# Altium footprint library Regulator.PcbLib: 11 footprints
Each footprint in its own frame and in the unit in brackets; x right, y up, seen from the top. Pads: shape width x height; smd on the part's side, far side on the other; paste and mask are expansions set on the pad; w line width, h text height; cw(c..) or ccw(c..) is an arc to the next point about the centre after c.
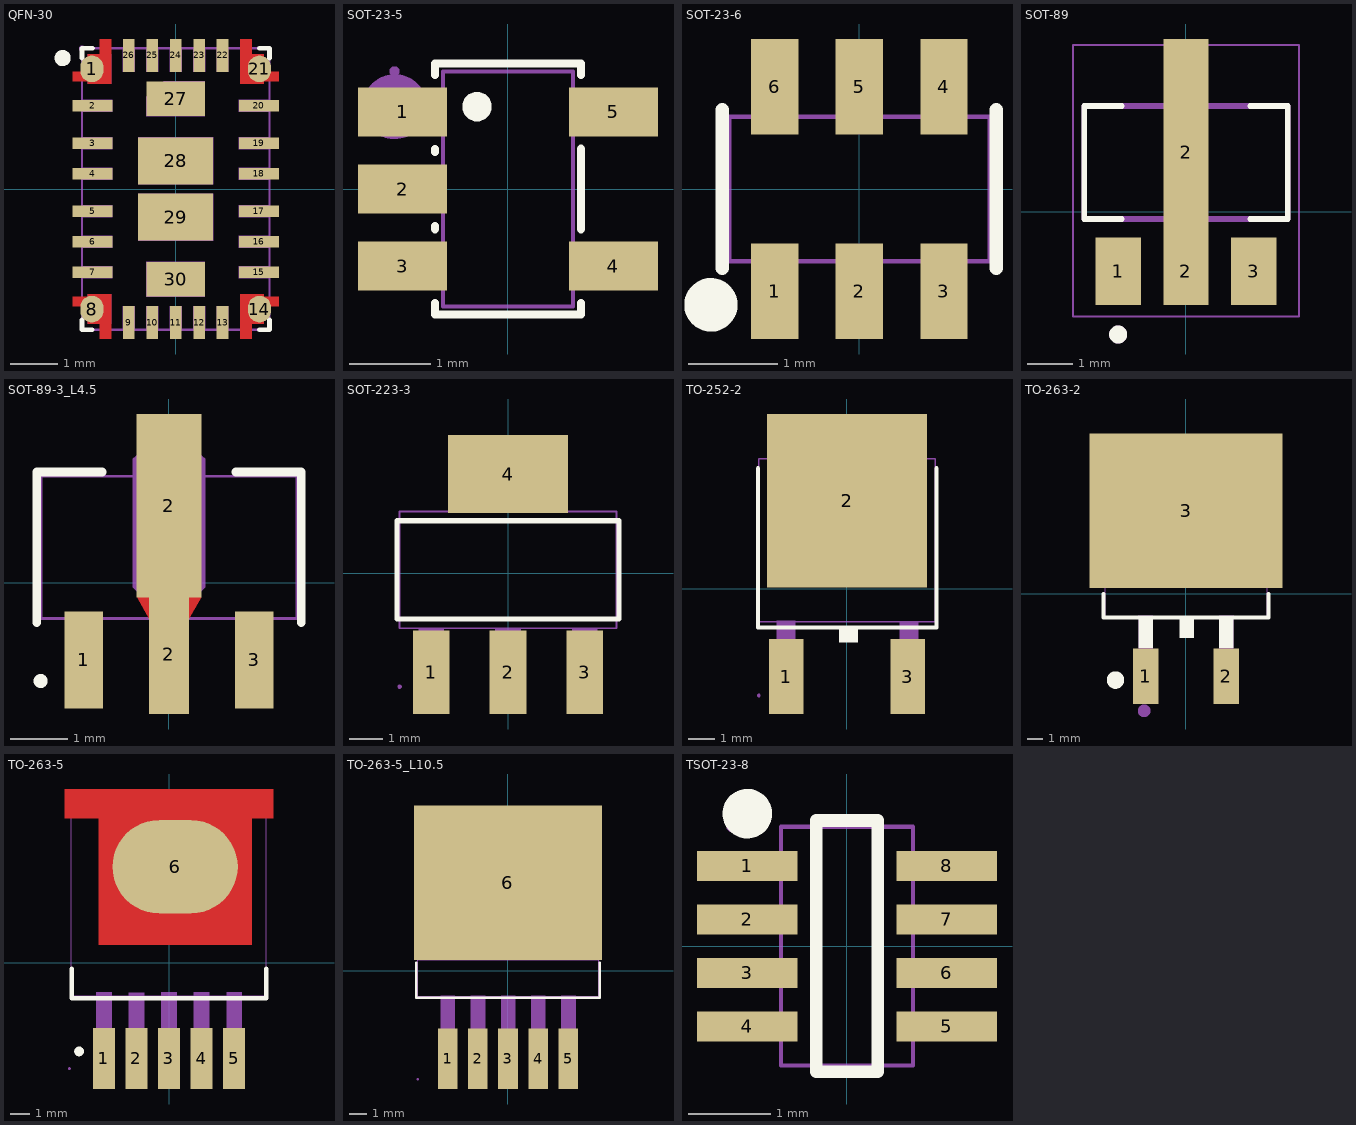
[diagram p0: the footprints below, top view; thin cyan lines are the x and y axes]

## QFN-30 [mm]
pads (30):
  oval 0.495x0.57 smd: 1(-1.787,2.562) 8(-1.788,-2.562) 14(1.788,-2.562) 21(1.787,2.562)
  rect 0.85x0.25 smd paste+0 mask+0.05: 2(-1.775,1.775) 3(-1.775,0.975) 4(-1.775,0.325) 5(-1.775,-0.475) 6(-1.775,-1.125) 7(-1.775,-1.775) 15(1.775,-1.775) 16(1.775,-1.125) 17(1.775,-0.475) 18(1.775,0.325) 19(1.775,0.975) 20(1.775,1.775)
  rect 0.25x0.7 smd paste+0 mask+0.05: 9(-1,-2.85) 10(-0.5,-2.85) 11(0,-2.85) 12(0.5,-2.85) 13(1,-2.85) 22(1,2.85) 23(0.5,2.85) 24(0,2.85) 25(-0.5,2.85) 26(-1,2.85)
  rect 1.25x0.74 smd paste+0 mask+0.05: 27(0,1.925) 30(0,-1.925)
  rect 1.6x1 smd paste+0 mask+0.05: 28(0,0.6) 29(0,-0.6)
Top Layer:
  region: -1.625,2.875 -1.625,3.2 -1.375,3.2 -1.375,2.875 -1.375,2.5 -1.375,2.3 -1.375,2.25 -1.625,2.25 -1.875,2.25 -1.875,2.3 -2.2,2.3 -2.2,2.5 -1.875,2.5 -1.875,2.875
  region: 1.625,-2.875 1.625,-3.2 1.375,-3.2 1.375,-2.875 1.375,-2.5 1.375,-2.3 1.375,-2.25 1.625,-2.25 1.875,-2.25 1.875,-2.3 2.2,-2.3 2.2,-2.5 1.875,-2.5 1.875,-2.875
  region: -1.625,-2.875 -1.875,-2.875 -1.875,-2.5 -2.2,-2.5 -2.2,-2.3 -1.875,-2.3 -1.875,-2.25 -1.625,-2.25 -1.375,-2.25 -1.375,-2.3 -1.375,-2.5 -1.375,-2.875 -1.375,-3.2 -1.625,-3.2
  region: 1.625,2.875 1.875,2.875 1.875,2.5 2.2,2.5 2.2,2.3 1.875,2.3 1.875,2.25 1.625,2.25 1.375,2.25 1.375,2.3 1.375,2.5 1.375,2.875 1.375,3.2 1.625,3.2
Top Overlay:
  circle w0.2: c-2.413,2.794 r0.073
  lines w0.1: -2,-2.795 -2,-3 -1.78,-3 ; -2,2.795 -2,3 -1.775,3 ; 1.78,-3 2,-3 2,-2.795 ; 1.78,3 2,3 2,2.795
Mechanical 15:
  drawing of 35 lines, arcs and shapes, not listed

## SOT-23-5 [mm]
pads (5):
  rect 1.1x0.6 smd: 1(-1.3,0.95) 2(-1.3,0) 3(-1.3,-0.95) 4(1.3,-0.95) 5(1.3,0.95)
Top Overlay:
  region: -0.204,1.016 -0.204,0.981 -0.23,0.915 -0.28,0.864 -0.346,0.837 -0.416,0.837 -0.482,0.864 -0.532,0.915 -0.558,0.981 -0.558,1.016 -0.558,1.051 -0.532,1.117 -0.482,1.168 -0.416,1.195 -0.346,1.195 -0.28,1.168 -0.23,1.117 -0.204,1.051
  lines w0.1: -0.9,-1.404 -0.9,-1.55 0.9,-1.55 0.9,-1.404 ; -0.9,-0.496 -0.9,-0.454 ; -0.9,0.454 -0.9,0.496 ; -0.9,1.404 -0.9,1.55 0.9,1.55 0.9,1.404 ; 0.9,-0.496 0.9,0.496
Mechanical 6:
  circle w0.4: c-1.397,1.016 r0.2
Mechanical 15:
  region: 1.4,1.15 1.4,0.75 0.95,0.75 0.95,1.15
  region: 0.96,1.15 0.96,0.75 0.79,0.75 0.79,1.15
  region: 1.4,-0.75 1.4,-1.15 0.95,-1.15 0.95,-0.75
  region: 0.96,-0.75 0.96,-1.15 0.79,-1.15 0.79,-0.75
  region: -0.95,-0.75 -0.95,-1.15 -1.4,-1.15 -1.4,-0.75
  region: -0.79,-0.75 -0.79,-1.15 -0.96,-1.15 -0.96,-0.75
  region: -0.95,0.2 -0.95,-0.2 -1.4,-0.2 -1.4,0.2
  region: -0.79,0.2 -0.79,-0.2 -0.96,-0.2 -0.96,0.2
  region: -0.95,1.15 -0.95,0.75 -1.4,0.75 -1.4,1.15
  region: -0.79,1.15 -0.79,0.75 -0.96,0.75 -0.96,1.15
  region: -1.46,1.45 -1.46,1.425 -1.425,1.39 -1.375,1.39 -1.34,1.425 -1.34,1.45 -1.34,1.475 -1.375,1.51 -1.425,1.51 -1.46,1.475
  lines w0.051: -0.8,-1.45 -0.8,1.45 0.8,1.45 0.8,-1.45 -0.8,-1.45
3D body "SOT-23-5.stp": height 1.45, standoff 0, extent -1.4,-1.45 1.4,1.45

## SOT-23-6 [mm]
pads (6):
  rect 0.532x1.072 smd: 1(-0.95,-1.149) 2(0,-1.149) 3(0.95,-1.149) 4(0.95,1.149) 5(0,1.149) 6(-0.95,1.149)
Top Overlay:
  circle w0.3: c-1.668,-1.301 r0.15
  lines w0.152: -1.539,-0.889 -1.539,0.889 ; 1.539,-0.889 1.539,0.889
Mechanical 15:
  region: -1.403,-1.4 -1.404,-1.376 -1.439,-1.341 -1.488,-1.341 -1.522,-1.376 -1.523,-1.4 -1.522,-1.425 -1.487,-1.459 -1.438,-1.459 -1.404,-1.424
  region: -1.165,-0.925 -0.735,-0.925 -0.735,-1.4 -1.165,-1.4
  region: -1.165,-0.803 -0.735,-0.803 -0.735,-0.935 -1.165,-0.935
  region: -0.215,-0.925 0.215,-0.925 0.215,-1.4 -0.215,-1.4
  region: -0.215,-0.803 0.215,-0.803 0.215,-0.935 -0.215,-0.935
  region: 0.735,-0.925 1.165,-0.925 1.165,-1.4 0.735,-1.4
  region: 0.735,-0.803 1.165,-0.803 1.165,-0.935 0.735,-0.935
  region: 0.735,0.925 1.165,0.925 1.165,1.4 0.735,1.4
  region: 0.735,0.935 1.165,0.935 1.165,0.803 0.735,0.803
  region: -0.215,0.925 0.215,0.925 0.215,1.4 -0.215,1.4
  region: -0.215,0.935 0.215,0.935 0.215,0.803 -0.215,0.803
  region: -1.165,0.925 -0.735,0.925 -0.735,1.4 -1.165,1.4
  region: -1.165,0.935 -0.735,0.935 -0.735,0.803 -1.165,0.803
  lines w0.051: -1.463,-0.813 1.463,-0.813 1.463,0.813 -1.463,0.813 -1.463,-0.813

## SOT-89 [mm]
pads (4):
  rect 1x1.5 smd mask+0: 1(-1.5,-1.318) 3(1.5,-1.317)
  rect 1x1.5 smd paste-2 mask+0: 2(0,-1.318)
  rect 1x5 smd paste-2 mask+0: 2(0,1.318)
Top Overlay:
  circle w0.2: c-1.5,-2.718 r0.1
  lines w0.127: -1.42,-0.163 -2.25,-0.162 -2.25,2.338 -1.42,2.338 ; 1.42,-0.162 2.25,-0.162 2.25,2.338 1.42,2.338
Top Solder:
  region: 2.07,-0.497 2.07,-2.137 0.93,-2.137 0.93,-0.497
  region: -0.93,-0.497 -0.93,-2.137 -2.07,-2.137 -2.07,-0.498
Mechanical 13:
  circle w0.2: c-1.5,-2.718 r0.1
  lines w0.127: -2.25,-0.162 -2.25,2.338 2.25,2.338 2.25,-0.162 -2.25,-0.162
Mechanical 15:
  lines w0.05: -2.5,-2.317 -2.5,3.683 2.5,3.683 2.5,-2.317 -2.5,-2.317
3D body "CircuitWorks-SOT-89.step": height 1.5, standoff 0, extent -2.341,-1.318 2.159,2.682

## SOT-89-3_L4.5 [mm] "JLCPCB  L=Length"
pads (4):
  rect 0.672x1.7 smd: 1(-1.5,-1.356) 3(1.5,-1.356)
  rect 1.14x3.226 smd: 2(0,1.356)
  rect 0.7x2.1 smd: 2(0,-1.257)
Top Layer:
  region: -0.568,-0.257 -0.294,-0.731 -0.112,-0.626 -0.386,-0.152
  region: 0.389,-0.152 0.115,-0.626 0.296,-0.731 0.571,-0.257
Top Overlay:
  circle w0.2: c-2.259,-1.727 r0.022
  lines w0.152: -2.326,-0.702 -2.326,1.95 -1.177,1.95 ; 1.177,1.95 2.326,1.95 2.326,-0.702
Mechanical 6:
  circle w0.3: c-1.5,-1.715 r0.15
Mechanical 15:
  region: 1.75,-0.624 1.75,-1.724 1.25,-1.724 1.25,-0.624
  region: -1.25,-0.624 -1.25,-1.724 -1.75,-1.724 -1.75,-0.624
  region: -2.25,-1.784 -2.225,-1.784 -2.19,-1.749 -2.19,-1.699 -2.225,-1.664 -2.25,-1.664 -2.275,-1.664 -2.31,-1.699 -2.31,-1.749 -2.275,-1.784
  region: -0.26,-0.439 -0.26,-1.724 0.26,-1.724 0.26,-0.439 0.635,-0.081 0.635,2.186 0.288,2.471 -0.287,2.471 -0.635,2.186 -0.635,-0.081
  lines w0.051: -2.25,-0.626 2.25,-0.626 2.25,1.874 -2.25,1.874 -2.25,-0.626
3D body "SOT-89.STEP": height 1.59, standoff -0.01, extent -2.3,-2 2.3,2.25

## SOT-223-3 [mm]
pads (4):
  rect 1.1x2.5 smd: 1(-2.3,-2.97) 2(0,-2.97) 3(2.3,-2.97)
  rect 3.6x2.34 smd: 4(0,2.97)
Top Overlay:
  lines w0.152: -3.326,-1.371 -3.326,1.571 3.326,1.571 3.326,-1.371 -3.326,-1.371
Mechanical 15:
  region: -1.5,3.6 1.5,3.6 1.5,2.85 -1.5,2.85
  region: -1.5,2.86 1.5,2.86 1.5,1.84 -1.5,1.84
  region: -2.675,-2.65 -1.925,-2.65 -1.925,-3.4 -2.675,-3.4
  region: -2.675,-1.64 -1.925,-1.64 -1.925,-2.66 -2.675,-2.66
  region: -0.375,-2.65 0.375,-2.65 0.375,-3.4 -0.375,-3.4
  region: -0.375,-1.64 0.375,-1.64 0.375,-2.66 -0.375,-2.66
  region: 1.925,-2.65 2.675,-2.65 2.675,-3.4 1.925,-3.4
  region: 1.925,-1.64 2.675,-1.64 2.675,-2.66 1.925,-2.66
  region: -3.25,-3.46 -3.225,-3.46 -3.19,-3.425 -3.19,-3.375 -3.225,-3.34 -3.25,-3.34 -3.275,-3.34 -3.31,-3.375 -3.31,-3.425 -3.275,-3.46
  lines w0.051: -3.25,-1.65 -3.25,1.85 3.25,1.85 3.25,-1.65 -3.25,-1.65

## TO-252-2 [mm] "JLCPCB"
pads (3):
  rect 1.3x2.8 smd: 1(-2.273,-3.292) 3(2.273,-3.292)
  rect 6x6.5 smd: 2(0,3.292)
Top Overlay:
  region: 0.4,-2 -0.299,-2 -0.299,-1.524 0.4,-1.524
  lines w0.152: -3.34,4.511 -3.34,-1.456 3.353,-1.456 3.353,4.511
Mechanical 15:
  region: -3.3,-3.938 -3.324,-3.939 -3.358,-3.974 -3.357,-4.022 -3.324,-4.057 -3.3,-4.058 -3.276,-4.057 -3.242,-4.022 -3.242,-3.974 -3.276,-3.939
  region: 2.667,0.727 -2.668,0.727 -2.668,5.403 -2.135,5.937 2.134,5.937 2.667,5.403
  region: 2.667,-3.998 1.968,-3.998 1.968,-2.408 2.667,-2.408
  region: -1.93,-3.998 -2.629,-3.998 -2.629,-2.408 -1.93,-2.408
  region: 2.667,-2.474 1.968,-2.474 1.968,-1.224 2.667,-1.224
  region: -1.93,-2.448 -2.629,-2.448 -2.629,-1.198 -1.93,-1.198
  lines w0.051: -3.3,-1.231 3.3,-1.231 3.3,4.869 -3.3,4.869 -3.3,-1.231
3D body "User Library-DPAK-1.step": height 2.39, standoff -0.02, extent -3.258,-4.028 3.282,5.911

## TO-263-2 [mil] "D2PAK_L10.2-W9.0-P5.08-LS16.9-BR"
pads (3):
  rect 63x137.8 smd paste+0 mask+1.97: 1(-100,-205.58) 2(100,-205.58)
  rect 480.3x383.9 smd paste+0 mask+1.97: 3(0,205.58)
Top Overlay:
  circle w27.56: c-175,-215 r7.87
  region: 82.16,-63.34 117.16,-63.34 117.16,-76.81 117.16,-134.41 100.28,-134.41 82.16,-134.41
  region: -117.84,-63.34 -82.84,-63.34 -82.84,-76.81 -82.84,-134.41 -99.72,-134.41 -117.84,-134.41
  region: -15.75,-60 19.25,-60 19.25,-110.44 2.36,-110.44 -15.75,-110.44
  lines w10: -205,-1.58 -205,-59.58 205,-59.58 205,-1.58
Mechanical 6:
  circle w15.75: c-103.94,-291.34 r7.87
Mechanical 15:
  region: -192.13,337.01 192.11,337.01 192.11,29.89 -192.13,29.89
  region: -117.32,-55.12 -82.32,-55.12 -82.32,-110.12 -82.32,-167.72 -99.21,-167.72 -117.32,-167.72
  region: -84.25,-263.78 -115.75,-263.78 -115.75,-163.78 -84.25,-163.78
  region: 115.75,-262.99 84.25,-262.99 84.25,-162.99 115.75,-162.99
  region: 82.68,-55.12 117.68,-55.12 117.68,-110.12 117.68,-167.72 100.79,-167.72 82.68,-167.72
  region: -175.03,-218.6 -173.42,-218.57 -171.17,-216.27 -171.17,-213.06 -173.42,-210.76 -175.03,-210.73 -176.64,-210.76 -178.89,-213.06 -178.89,-216.27 -176.64,-218.57
  lines w2: -200,-57.01 201.57,-57.01 201.58,380 -200,380 -200,-57.01
3D body "TO-263-2.stp": height 188.98, standoff 0, extent -207.93,-242.13 211.08,381.89

## TO-263-5 [mm]
pads (6):
  rect 1.15x3.2 smd: 1(-3.404,-5.008) 2(-1.702,-5.008) 3(0,-5.008) 4(1.702,-5.008) 5(3.404,-5.008)
  oval 6.553x4.877 smd: 6(0.318,5.008)
Top Layer:
  region: -3.683,0.944 -3.683,7.548 -5.461,7.548 -5.461,9.072 5.461,9.072 5.461,7.548 4.317,7.548 4.317,0.944
Top Overlay:
  circle w0.254: c-4.699,-4.644 r0.127
  lines w0.254: -5.08,-0.326 -5.08,-1.863 5.08,-1.863 5.08,-0.326
Mechanical 6:
  circle w0.3: c-3.388,-6.018 r0.15
Mechanical 15:
  region: -5.207,-5.483 -5.232,-5.483 -5.267,-5.518 -5.267,-5.568 -5.232,-5.603 -5.207,-5.603 -5.182,-5.603 -5.147,-5.568 -5.147,-5.518 -5.182,-5.483
  region: -3.803,-5.543 -3.803,-4.273 -3.003,-4.273 -3.003,-5.543
  region: -0.4,-5.543 -0.4,-4.273 0.4,-4.273 0.4,-5.543
  region: -2.102,-5.543 -2.102,-4.273 -1.302,-4.273 -1.302,-5.543
  region: 1.302,-5.543 1.302,-4.273 2.102,-4.273 2.102,-5.543
  region: 3.004,-5.543 3.004,-4.273 3.804,-4.273 3.804,-5.543
  region: -5.207,7.929 -5.207,8.691 5.207,8.691 5.207,7.929 3.429,7.929 3.429,6.024 3.937,6.024 4.064,6.024 4.064,1.325 -3.556,1.325 -3.556,6.024 -3.048,6.024 -3.048,7.929
  region: 3.81,-4.347 3.01,-4.347 3.01,-1.547 3.81,-1.547
  region: 2.103,-4.353 1.303,-4.353 1.303,-1.553 2.103,-1.553
  region: 0.395,-4.343 -0.405,-4.343 -0.405,-1.543 0.395,-1.543
  region: -1.297,-4.37 -2.097,-4.37 -2.097,-1.57 -1.297,-1.57
  region: -3.003,-4.359 -3.803,-4.359 -3.803,-1.559 -3.003,-1.559
  lines w0.051: -5.14,-1.723 5.08,-1.723 5.08,8.677 -5.14,8.677 -5.14,-1.723
3D body "TO-263-5.stp": height 4.8, standoff 0, extent -5.321,-6.15 5.321,9.7

## TO-263-5_L10.5 [mm] "JLCPCB    L=Length"
pads (6):
  rect 1.1x3.4 smd: 1(-3.4,-4.953) 2(-1.7,-4.953) 3(0,-4.953) 4(1.7,-4.953) 5(3.4,-4.953)
  rect 10.587x8.705 smd: 6(0,4.953)
Top Overlay:
  lines w0.152: -5.166,0.448 -5.166,-1.516 5.166,-1.516 5.166,0.448
Mechanical 6:
  circle w0.42: c-3.429,-6.096 r0.21
Mechanical 15:
  region: -2.99,-4.096 -3.79,-4.096 -3.79,-1.396 -2.99,-1.396
  region: -1.29,-4.096 -2.09,-4.096 -2.09,-1.396 -1.29,-1.396
  region: 0.41,-4.096 -0.39,-4.096 -0.39,-1.396 0.41,-1.396
  region: 2.11,-4.096 1.31,-4.096 1.31,-1.396 2.11,-1.396
  region: 3.81,-4.096 3.01,-4.096 3.01,-1.396 3.81,-1.396
  region: 5.09,0.6 -5.09,0.6 -5.09,7.552 -4.072,8.57 4.072,8.57 5.09,7.552
  region: 3.81,-6.096 3,-6.096 3,-4.056 3.81,-4.056
  region: 2.105,-6.096 1.295,-6.096 1.295,-4.056 2.105,-4.056
  region: 0.405,-6.096 -0.405,-6.096 -0.405,-4.056 0.405,-4.056
  region: -1.295,-6.096 -2.105,-6.096 -2.105,-4.056 -1.295,-4.056
  region: -2.995,-6.096 -3.805,-6.096 -3.805,-4.056 -2.995,-4.056
  region: -5.09,-6.036 -5.114,-6.037 -5.148,-6.072 -5.148,-6.12 -5.114,-6.155 -5.09,-6.156 -5.066,-6.155 -5.032,-6.12 -5.032,-6.072 -5.066,-6.037
  lines w0.051: -5.09,-1.44 -5.09,7.3 5.09,7.3 5.09,-1.44 -5.09,-1.44

## TSOT-23-8 [mm]
pads (8):
  rect 1.222x0.364 smd: 1(-1.211,0.975) 2(-1.211,0.325) 3(-1.211,-0.325) 4(-1.211,-0.975) 5(1.211,-0.975) 6(1.211,-0.325) 7(1.211,0.325) 8(1.211,0.975)
Top Overlay:
  circle w0.3: c-1.211,1.609 r0.15
  lines w0.152: -0.371,-1.526 0.371,-1.526 0.371,1.526 -0.371,1.526 -0.371,-1.526
Mechanical 15:
  region: -1.46,1.45 -1.46,1.425 -1.425,1.39 -1.375,1.39 -1.34,1.425 -1.34,1.45 -1.34,1.475 -1.375,1.51 -1.425,1.51 -1.46,1.475
  region: -1.4,1.125 -1,1.125 -1,0.825 -1.4,0.825
  region: -1.01,1.125 -0.79,1.125 -0.79,0.825 -1.01,0.825
  region: -1.4,0.475 -1,0.475 -1,0.175 -1.4,0.175
  region: -1.01,0.475 -0.79,0.475 -0.79,0.175 -1.01,0.175
  region: -1.4,-0.175 -1,-0.175 -1,-0.475 -1.4,-0.475
  region: -1.01,-0.175 -0.79,-0.175 -0.79,-0.475 -1.01,-0.475
  region: -1.4,-0.825 -1,-0.825 -1,-1.125 -1.4,-1.125
  region: -1.01,-0.825 -0.79,-0.825 -0.79,-1.125 -1.01,-1.125
  region: 1.4,1.125 1,1.125 1,0.825 1.4,0.825
  region: 1.01,1.125 0.79,1.125 0.79,0.825 1.01,0.825
  region: 1.4,0.475 1,0.475 1,0.175 1.4,0.175
  region: 1.01,0.475 0.79,0.475 0.79,0.175 1.01,0.175
  region: 1.4,-0.175 1,-0.175 1,-0.475 1.4,-0.475
  region: 1.01,-0.175 0.79,-0.175 0.79,-0.475 1.01,-0.475
  region: 1.4,-0.825 1,-0.825 1,-1.125 1.4,-1.125
  region: 1.01,-0.825 0.79,-0.825 0.79,-1.125 1.01,-1.125
  lines w0.051: -0.8,-1.45 0.8,-1.45 0.8,1.45 -0.8,1.45 -0.8,-1.45